# EAGLE library part LT1073 (library pulsegen)
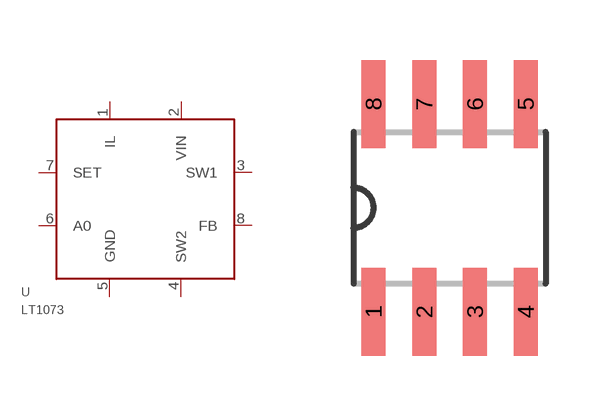
[diagram p0: symbol with the pads of SO08; footprint SO08]

Designator prefix -

## LT1073_SOIC8  [SO08]
1  IL
2  VIN
3  SW1
4  SW2
5  GND
6  A0
7  SET
8  FB

## Footprint SO08 (pad centres in mm)
Small Outline Package 8 NS Package M08A
smd 0.6 x 2.2: 1 -1.905,-2.6; 2 -0.635,-2.6; 3 0.635,-2.6; 4 1.905,-2.6; 5 1.905,2.6; 6 0.635,2.6; 7 -0.635,2.6; 8 -1.905,2.6